# Altium footprint library Res_Stackpole_RSMF2JT1R00_eec_0.PcbLib: 1 footprints
Each footprint in its own frame and in the unit in brackets; x right, y up, seen from the top. Pads: shape width x height; smd on the part's side, far side on the other; paste and mask are expansions set on the pad; w line width, h text height; cw(c..) or ccw(c..) is an arc to the next point about the centre after c.
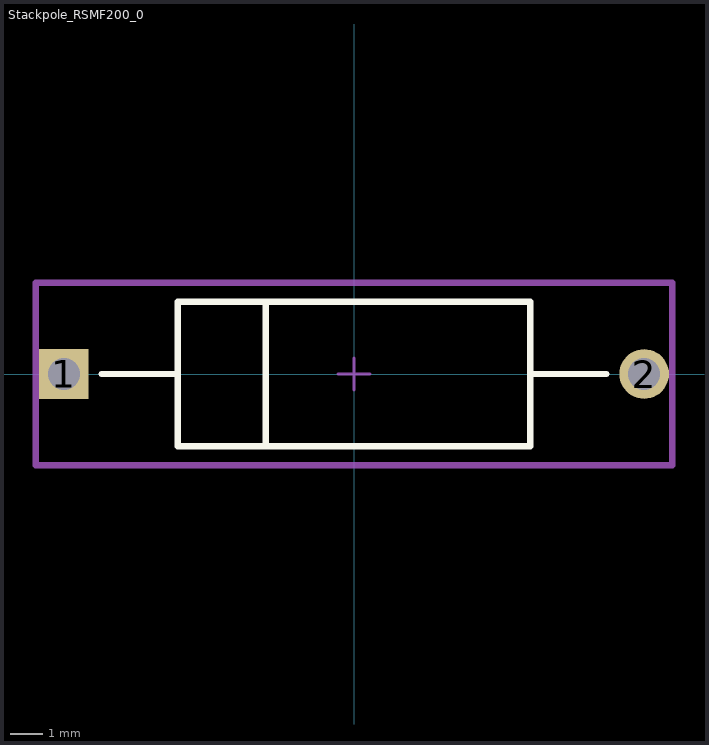
[diagram p0: the footprint, top view; thin cyan lines are the x and y axes]

## Stackpole_RSMF200_0 [mm]
pads (2):
  rect 1.55x1.55 hole 1 paste-1000 mask+0: 1(-9.055,0)
  round 1.55 hole 1 paste-1000 mask+0: 2(9.055,0)
Top Overlay:
  lines w0.2: -7.88,0 -5.5,0 ; -2.75,-2.18 -2.75,2.18 ; 5.5,0 7.88,0 ; -5.5,-2.25 5.5,-2.25 5.5,2.25 -5.5,2.25 -5.5,-2.25
Mechanical 10:
  lines w0.2: -9.93,-2.85 9.93,-2.85 9.93,2.85 -9.93,2.85 -9.93,-2.85
  text ".Designator" at 0,0 h1
Mechanical 12:
  lines w0.15: -5.5,-2.25 5.5,-2.25 5.5,2.25 -5.5,2.25 -5.5,-2.25
Mechanical 15:
  lines w0.1: -0.5,0 0.5,0 ; 0,-0.5 0,0.5
  lines w0.2: -9.93,-2.85 9.93,-2.85 9.93,2.85 -9.93,2.85 -9.93,-2.85
3D body "3dmodel.step": height 0.25, standoff 0, extent -9.93,-2.85 9.93,2.85